# EAGLE library part OSTTH080160 (library con-ost)
5mm Terminal Header
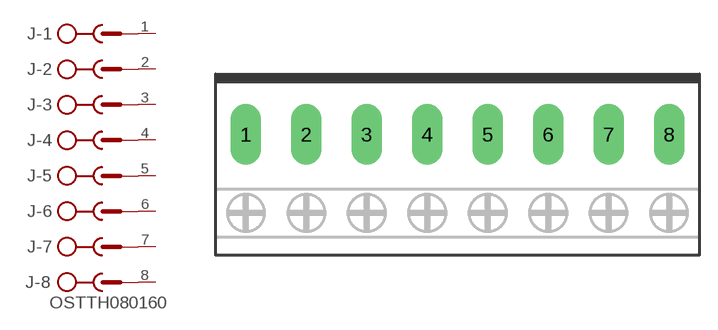
[diagram p13: symbol with the pads of EDSTL130-08; footprint EDSTL130-08]

Designator prefix J; gates -1=SK -2=SK -3=SK -4=SK -5=SK -6=SK -7=SK -8=SKV

## OSTTH080160  [EDSTL130-08]
1  -1:SK  pas
2  -2:SK  pas
3  -3:SK  pas
4  -4:SK  pas
5  -5:SK  pas
6  -6:SK  pas
7  -7:SK  pas
8  -8:SK  pas

## Footprint EDSTL130-08 (pad centres in mm)
5mm Pin Header for pluggable terminal blocks mating connector OSTTHXX0160
drill 1.676 long: 1 -17.5,0; 2 -12.5,0; 3 -7.5,0; 4 -2.5,0; 5 2.5,0; 6 7.5,0; 7 12.5,0; 8 17.5,0